# Altium footprint library Resistor - Axial.PcbLib: 16 footprints
Each footprint in its own frame and in the unit in brackets; x right, y up, seen from the top. Pads: shape width x height; smd on the part's side, far side on the other; paste and mask are expansions set on the pad; w line width, h text height; cw(c..) or ccw(c..) is an arc to the next point about the centre after c.
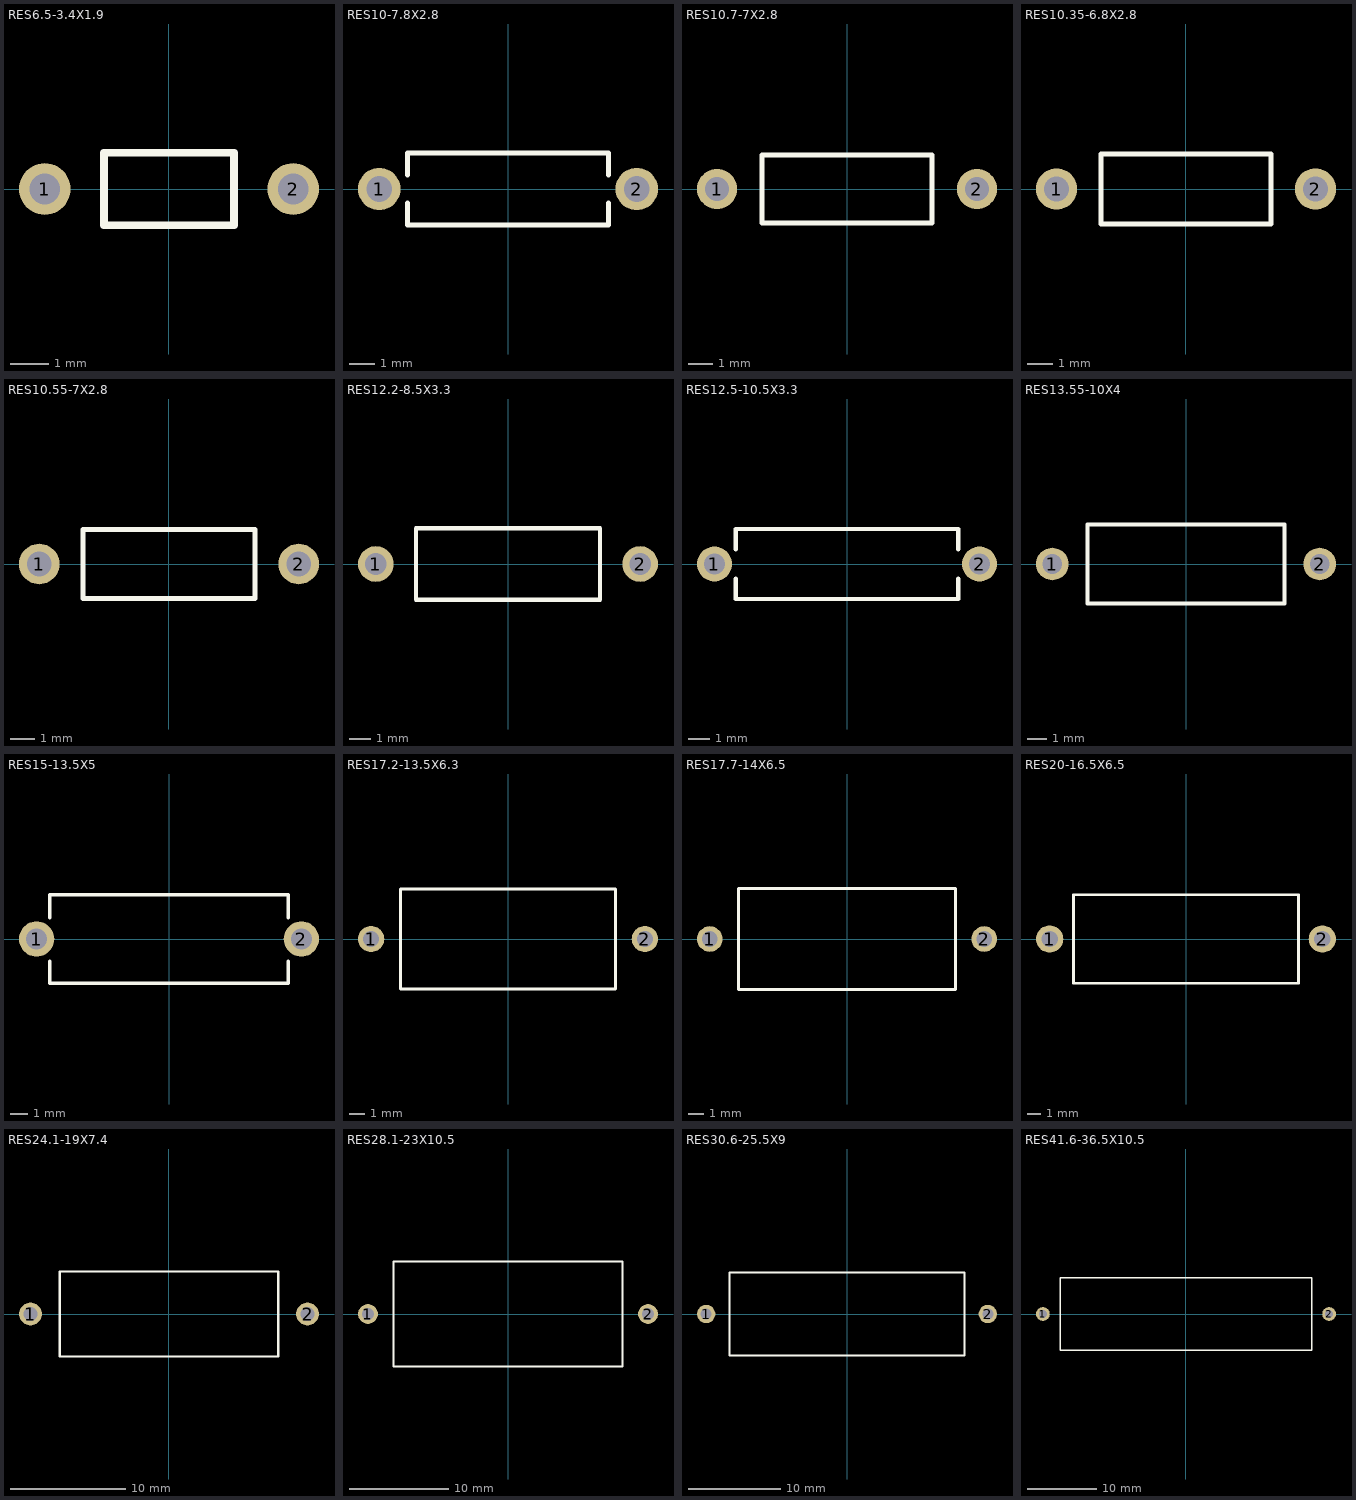
[diagram p0: the footprints below, top view; thin cyan lines are the x and y axes]

## RES6.5-3.4X1.9 [mm] "Resistor, Axial; Body 3.4 x 1.9 mm (LxDia. max), Lead Dia. 0.5 mm (max)"
height 1.9
pads (2):
  round 1.35 hole 0.8: 1(-3.25,0) 2(3.25,0)
Top Overlay:
  lines w0.2: -1.7,-0.95 -1.7,0.95 1.7,0.95 1.7,-0.95 -1.7,-0.95

## RES10-7.8X2.8 [mm] "Resistor, Axial; Body 7.8 x 2.8 mm (LxDia. max), Lead Dia. 0.7 mm (max)"
height 2.8
pads (2):
  round 1.65 hole 1: 1(-5,0) 2(5,0)
Top Overlay:
  lines w0.2: -3.9,-0.55 -3.9,-1.4 3.9,-1.4 3.9,-0.55 ; -3.9,0.55 -3.9,1.4 3.9,1.4 3.9,0.55

## RES10.7-7X2.8 [mm] "Resistor, Axial; Body 7 x 2.8 mm (LxDia. max), Lead Dia. 0.7 mm (max)"
height 2.8
pads (2):
  round 1.65 hole 1: 1(-5.35,0) 2(5.35,0)
Top Overlay:
  lines w0.2: -3.5,-1.4 -3.5,1.4 3.5,1.4 3.5,-1.4 -3.5,-1.4

## RES10.35-6.8X2.8 [mm] "Resistor, Axial; Body 6.8 x 2.8 mm (LxDia. max), Lead Dia. 0.65 mm (max)"
height 2.8
pads (2):
  round 1.65 hole 1: 1(-5.175,0) 2(5.175,0)
Top Overlay:
  lines w0.2: -3.4,-1.4 3.4,-1.4 3.4,1.4 -3.4,1.4 -3.4,-1.4

## RES10.55-7X2.8 [mm] "Resistor, Axial; Body 7 x 2.8 mm (LxDia. max), Lead Dia. 0.65 mm (max)"
height 2.8
pads (2):
  round 1.65 hole 1: 1(-5.275,0) 2(5.275,0)
Top Overlay:
  lines w0.2: -3.5,-1.4 3.5,-1.4 3.5,1.4 -3.5,1.4 -3.5,-1.4

## RES12.2-8.5X3.3 [mm] "Resistor, Axial; Body 8.5 x 3.3 mm (LxDia. max), Lead Dia. 0.7 mm (max)"
height 3.3
pads (2):
  round 1.65 hole 1: 1(-6.1,0) 2(6.1,0)
Top Overlay:
  lines w0.2: -4.25,-1.65 -4.25,1.65 4.25,1.65 4.25,-1.65 -4.25,-1.65

## RES12.5-10.5X3.3 [mm] "Resistor, Axial; Body 10.5 x 3.3 mm (LxDia. max), Lead Dia. 0.7 mm (max)"
height 3.3
pads (2):
  round 1.65 hole 1: 1(-6.25,0) 2(6.25,0)
Top Overlay:
  lines w0.2: -5.25,-0.7 -5.25,-1.65 5.25,-1.65 5.25,-0.7 ; -5.25,0.7 -5.25,1.65 5.25,1.65 5.25,0.7

## RES13.55-10X4 [mm] "Resistor, Axial; Body 10 x 4 mm (LxDia. max), Lead Dia. 0.65 mm (max)"
height 4
pads (2):
  round 1.65 hole 1: 1(-6.775,0) 2(6.775,0)
Top Overlay:
  lines w0.2: -5,-2 -5,2 5,2 5,-2 -5,-2

## RES15-13.5X5 [mm] "Resistor, Axial; Body 13.5 x 5 mm (LxDia. max), Lead Dia. 0.85 mm (max)"
height 5
pads (2):
  round 2 hole 1.2: 1(-7.5,0) 2(7.5,0)
Top Overlay:
  lines w0.2: -6.75,-1.25 -6.75,-2.5 6.75,-2.5 6.75,-1.25 ; -6.75,1.2 -6.75,2.5 6.75,2.5 6.75,1.2

## RES17.2-13.5X6.3 [mm] "Resistor, Axial; Body 13.5 x 6.3 mm (LxDia. max), Lead Dia. 0.7 mm (max)"
height 6.3
pads (2):
  round 1.65 hole 1: 1(-8.6,0) 2(8.6,0)
Top Overlay:
  lines w0.2: -6.75,-3.15 -6.75,3.15 6.75,3.15 6.75,-3.15 -6.75,-3.15

## RES17.7-14X6.5 [mm] "Resistor, Axial; Body 14 x 6.5 x 6.5mm (LxWxH max), Lead Dia. 0.7 mm (max)"
height 6.5
pads (2):
  round 1.65 hole 1: 1(-8.85,0) 2(8.85,0)
Top Overlay:
  lines w0.2: -7,-3.25 7,-3.25 7,3.25 -7,3.25 -7,-3.25

## RES20-16.5X6.5 [mm] "Resistor, Axial; Body 16.5 x 6.5 mm (LxDia. max), Lead Dia. 0.85 mm (max)"
height 6.5
pads (2):
  round 2 hole 1.2: 1(-10,0) 2(10,0)
Top Overlay:
  lines w0.2: -8.25,-3.25 8.25,-3.25 8.25,3.25 -8.25,3.25 -8.25,-3.25

## RES24.1-19X7.4 [mm] "Resistor, Axial; Body 19 x 7.4 x 7.4mm (LxWxH max), Lead Dia. 0.85 mm (max)"
height 7.4
pads (2):
  round 2 hole 1.2: 1(-12.05,0) 2(12.05,0)
Top Overlay:
  lines w0.2: -9.5,-3.7 9.5,-3.7 9.5,3.7 -9.5,3.7 -9.5,-3.7

## RES28.1-23X10.5 [mm] "Resistor, Axial; Body 23 x 10.5 x 10.5mm (LxWxH max), Lead Dia. 0.85 mm (max)"
height 10.5
pads (2):
  round 2 hole 1.2: 1(-14.05,0) 2(14.05,0)
Top Overlay:
  lines w0.2: -11.5,-5.25 -11.5,5.25 11.5,5.25 11.5,-5.25 -11.5,-5.25

## RES30.6-25.5X9 [mm] "Resistor, Axial; Body 25.5 x 9 mm (LxDia. max), Lead Dia. 0.85 mm (max)"
height 9
pads (2):
  round 2 hole 1.2: 1(-15.3,0) 2(15.3,0)
Top Overlay:
  lines w0.2: -12.75,-4.5 -12.75,4.5 12.75,4.5 12.75,-4.5 -12.75,-4.5

## RES41.6-36.5X10.5 [mm] "Resistor, Axial; Body 36.5 x 10.5 x 10.5mm (LxWxH max), Lead Dia. 0.85 mm (max)"
height 10.5
pads (2):
  round 2 hole 1.2: 1(-20.8,0) 2(20.8,0)
Top Overlay:
  lines w0.2: -18.25,-5.25 18.25,-5.25 18.25,5.25 -18.25,5.25 -18.25,-5.25